# EAGLE library part Q48SC12050 (library Q48SC12050)
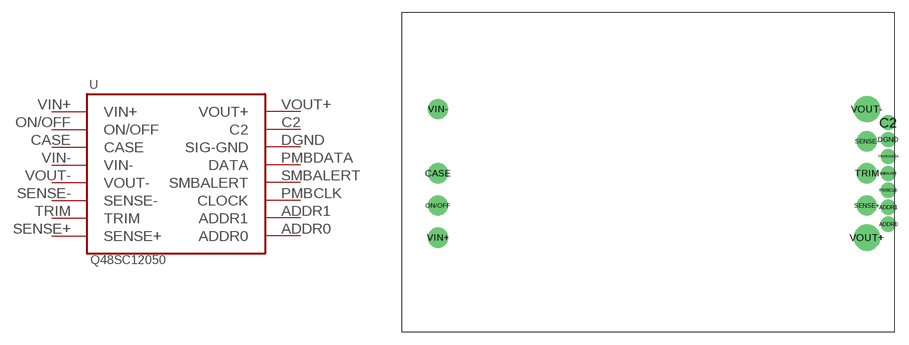
[diagram p0: symbol with the pads of Q48SC12050; footprint Q48SC12050]

Designator prefix -

## Q48SC12050  [Q48SC12050]
ADDR0  ADDR0
ADDR1  ADDR1
C2  C2
CASE  CASE
DGND  SIG-GND
ON/OFF  ON/OFF
PMBCLK  CLOCK
PMBDATA  DATA
SENSE+  SENSE+
SENSE-  SENSE-
SMBALERT  SMBALERT
TRIM  TRIM
VIN+  VIN+
VIN-  VIN-
VOUT+  VOUT+
VOUT-  VOUT-

## Footprint Q48SC12050 (pad centres in mm)
drill 1.194: ADDR0 53.34,-13.64; ADDR1 53.34,-11.633; C2 53.34,-1.6; DGND 53.34,-3.607; PMBCLK 53.34,-9.627; PMBDATA 53.34,-5.613; SMBALERT 53.34,-7.62
drill 1.6: CASE 0,-7.62; ON/OFF 0,-11.43; SENSE+ 50.8,-11.43; SENSE- 50.8,-3.81; TRIM 50.8,-7.62; VIN+ 0,-15.24; VIN- 0,0
drill 2.108: VOUT+ 50.8,-15.24; VOUT- 50.8,0